# Altium schematic symbol library SCH - MCU - ATMEGA - MICROCHIP ATMEGA32C1-AU TQFP32.SchLib: 1 symbol
Pins are listed as number, name and electrical type; pins without a type are passive.

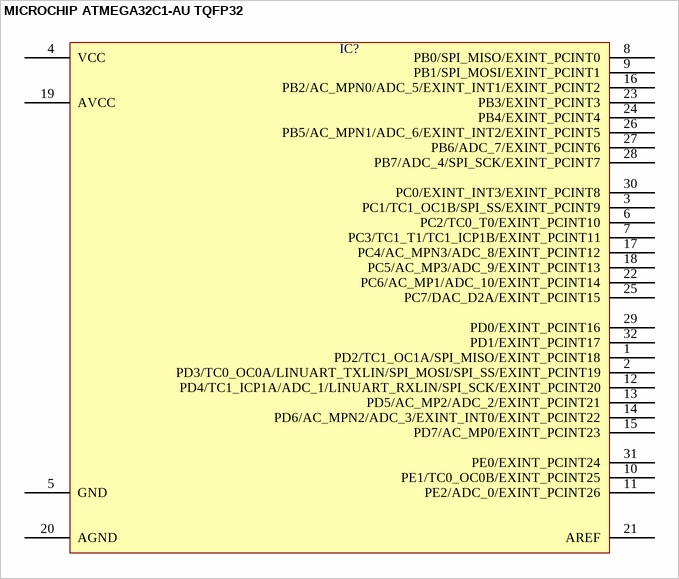
[diagram p0: symbol MICROCHIP ATMEGA32C1-AU TQFP32]

## MICROCHIP ATMEGA32C1-AU TQFP32
designator IC?  (value not drawn)
pins: 1 PD2/TC1_OC1A/SPI_MISO/EXINT_PCINT18, 2 PD3/TC0_OC0A/LINUART_TXLIN/SPI_MOSI/SPI_SS/EXINT_PCINT19, 3 PC1/TC1_OC1B/SPI_SS/EXINT_PCINT9, 4 VCC, 5 GND, 6 PC2/TC0_T0/EXINT_PCINT10, 7 PC3/TC1_T1/TC1_ICP1B/EXINT_PCINT11, 8 PB0/SPI_MISO/EXINT_PCINT0, 9 PB1/SPI_MOSI/EXINT_PCINT1, 10 PE1/TC0_OC0B/EXINT_PCINT25, 11 PE2/ADC_0/EXINT_PCINT26, 12 PD4/TC1_ICP1A/ADC_1/LINUART_RXLIN/SPI_SCK/EXINT_PCINT20, 13 PD5/AC_MP2/ADC_2/EXINT_PCINT21, 14 PD6/AC_MPN2/ADC_3/EXINT_INT0/EXINT_PCINT22, 15 PD7/AC_MP0/EXINT_PCINT23, 16 PB2/AC_MPN0/ADC_5/EXINT_INT1/EXINT_PCINT2, 17 PC4/AC_MPN3/ADC_8/EXINT_PCINT12, 18 PC5/AC_MP3/ADC_9/EXINT_PCINT13, 19 AVCC, 20 AGND, 21 AREF, 22 PC6/AC_MP1/ADC_10/EXINT_PCINT14, 23 PB3/EXINT_PCINT3, 24 PB4/EXINT_PCINT4, 25 PC7/DAC_D2A/EXINT_PCINT15, 26 PB5/AC_MPN1/ADC_6/EXINT_INT2/EXINT_PCINT5, 27 PB6/ADC_7/EXINT_PCINT6, 28 PB7/ADC_4/SPI_SCK/EXINT_PCINT7, 29 PD0/EXINT_PCINT16, 30 PC0/EXINT_INT3/EXINT_PCINT8, 31 PE0/EXINT_PCINT24, 32 PD1/EXINT_PCINT17